# Altium schematic symbol library CL32B225KCJSNNE.SchLib: 1 symbol
Pins are listed as number, name and electrical type; pins without a type are passive.

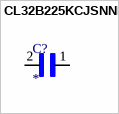
[diagram p0: symbol CL32B225KCJSNNE]

## CL32B225KCJSNNE
designator C?
2.2ÂµF Â±10% 100V Ceramic Capacitor X7R 1210 (3225 Metric); MP: CL32B225KCJSNNE; MF: Samsung Electro-Mechanics; Check_prices: https://www.snapeda.com/parts/CL32B225KCJSNNE/Samsung%20Electro-Mechanics/view-part/3599503/?ref=eda; Availability: Good; Package: 1210 Samsung; Value: *; Purchase-URL: https://pricing.snapeda.com/search/part/CL32B225KCJSNNE/?ref=eda; SnapEDA_Link: https://www.snapeda.com/parts/CL32B225KCJSNNE/Samsung%20Electro-Mechanics/view-part/3599503/?ref=snap; Price: None
footprint ANTC3225X280N
pins: 1, 2